# EAGLE library part LAN8720A-CP (library LAN8720A-CP)
LAN8720A Series 3.3 V RMII 10/100 Ethernet Transceiver Surface Mount - QFN-24
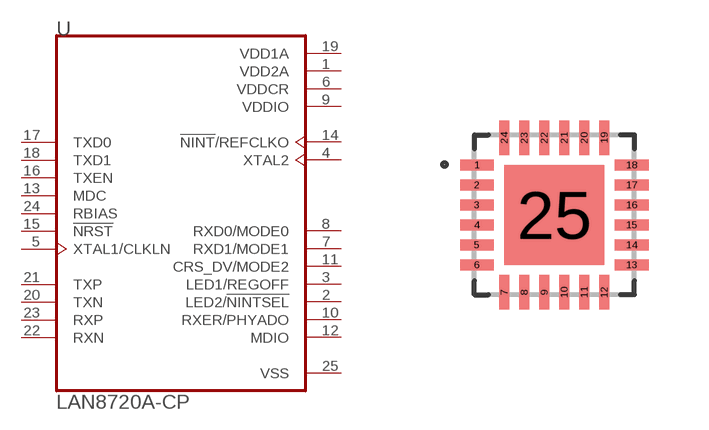
[diagram p0: symbol with the pads of QFN50P400X400X100-25N; footprint QFN50P400X400X100-25N]

Designator prefix U

## LAN8720A-CP (Availability: Unavailable; Description: LAN8720A Series 3.3 V RMII 10/100 Ethernet Transceiver Surface Mount - QFN-24; MF: Microchip; MP: LAN8720A-CP; Package: QFN-24 Microchip; Price: None)  [QFN50P400X400X100-25N]
1  VDD2A  pwr
2  LED2/!NINTSEL!
3  LED1/REGOFF
4  XTAL2  out
5  XTAL1/CLKLN  in
6  VDDCR  pwr
7  RXD1/MODE1
8  RXD0/MODE0
9  VDDIO  pwr
10  RXER/PHYADO
11  CRS_DV/MODE2
12  MDIO
13  MDC  in
14  !NINT!/REFCLKO  out
15  !NRST  in
16  TXEN  in
17  TXD0  in
18  TXD1  in
19  VDD1A  pwr
20  TXN
21  TXP
22  RXN
23  RXP
24  RBIAS  in
25  VSS  pwr

## Footprint QFN50P400X400X100-25N (pad centres in mm)
smd 0.86 x 0.26: 1 -1.935,1.25; 2 -1.935,0.75; 3 -1.935,0.25; 4 -1.935,-0.25; 5 -1.935,-0.75; 6 -1.935,-1.25; 13 1.935,-1.25; 14 1.935,-0.75; 15 1.935,-0.25; 16 1.935,0.25; 17 1.935,0.75; 18 1.935,1.25
smd 0.26 x 0.86: 7 -1.25,-1.935; 8 -0.75,-1.935; 9 -0.25,-1.935; 10 0.25,-1.935; 11 0.75,-1.935; 12 1.25,-1.935; 19 1.25,1.935; 20 0.75,1.935; 21 0.25,1.935; 22 -0.25,1.935; 23 -0.75,1.935; 24 -1.25,1.935
smd 2.5 x 2.5: 25 0,0